# Altium footprint library WateringSystem_lib.PcbLib: 38 footprints (part 2 of 3)
Each footprint in its own frame and in the unit in brackets; x right, y up, seen from the top. Pads: shape width x height; smd on the part's side, far side on the other; paste and mask are expansions set on the pad; w line width, h text height; cw(c..) or ccw(c..) is an arc to the next point about the centre after c.
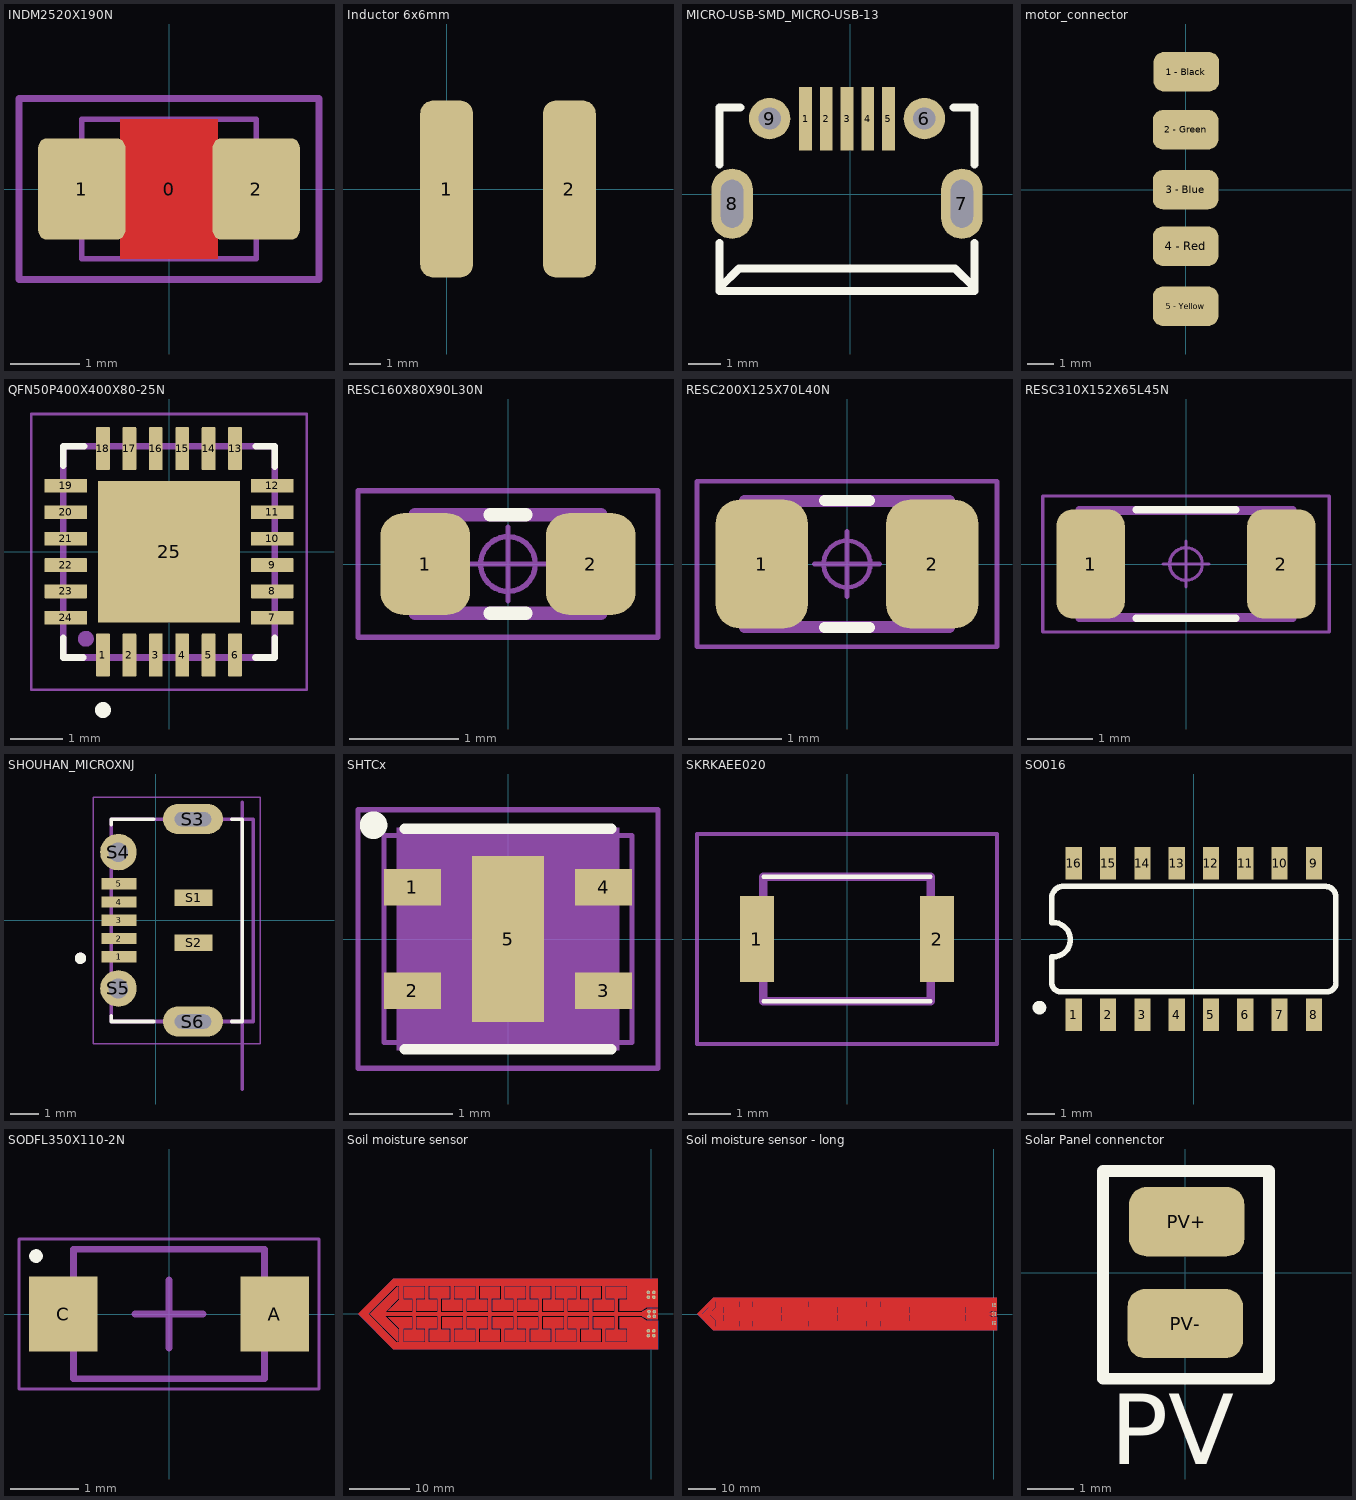
[diagram p1: the footprints below, top view; thin cyan lines are the x and y axes]

## INDM2520X190N [mm]
pads (3):
  round 0.508 on Mech15: 0(0,0)
  rrect20% 1.25x1.45 smd: 1(-1.25,0) 2(1.25,0)
Top Layer:
  pour cut-out: -0.7,1 0.7,1 0.7,-1 -0.7,-1
Mechanical 13:
  lines w0.076: -1.25,-1 -1.25,1 1.25,1 1.25,-1 -1.25,-1
Mechanical 15:
  lines w0.1: -2.15,-1.3 -2.15,1.3 2.15,1.3 2.15,-1.3 -2.15,-1.3
3D body "INDM2520X190N.STEP": height 1.79, standoff -0.01, extent -1.25,-1 1.25,1

## Inductor 6x6mm [mm]
pads (2):
  rrect50% 1.7x5.7 smd: 1(0,0) 2(3.95,0)

## MICRO-USB-SMD_MICRO-USB-13 [mm]
pads (9):
  rect 0.4x2 smd: 1(-1.4,2.362) 2(-0.75,2.362) 3(-0.1,2.362) 4(0.55,2.362) 5(1.2,2.362)
  round 1.3 hole 0.7: 6(2.325,2.37) 9(-2.525,2.37)
  oval 1.3x2.2 hole 0.7 slot 1.5 at 90 deg: 7(3.5,-0.3) 8(-3.7,-0.3)
Top Overlay:
  lines w0.254: -4.1,-3.037 3.9,-3.037 3.9,-1.535 ; -4.1,-3.017 -4.1,-1.535 ; -4.1,0.935 -4.1,2.712 -3.444,2.712 ; -4.07,-3.017 -4.07,-2.918 -3.48,-2.328 3.29,-2.328 3.88,-2.918 3.88,-3.037 ; 3.244,2.712 3.9,2.712 3.9,0.935

## motor_connector [mm]
pads (5):
  rrect50% 2.5x1.5 smd: "1 - Black"(0.03,4.493) "2 - Green"(0,2.286) "3 - Blue"(0,0) "4 - Red"(0,-2.159) "5 - Yellow"(0,-4.445)

## QFN50P400X400X80-25N [mm]
pads (25):
  rrect10% 0.26x0.81 smd: 1(-1.25,-1.955) 2(-0.75,-1.955) 3(-0.25,-1.955) 4(0.25,-1.955) 5(0.75,-1.955) 6(1.25,-1.955) 13(1.25,1.955) 14(0.75,1.955) 15(0.25,1.955) 16(-0.25,1.955) 17(-0.75,1.955) 18(-1.25,1.955)
  rrect10% 0.81x0.26 smd: 7(1.955,-1.25) 8(1.955,-0.75) 9(1.955,-0.25) 10(1.955,0.25) 11(1.955,0.75) 12(1.955,1.25) 19(-1.955,1.25) 20(-1.955,0.75) 21(-1.955,0.25) 22(-1.955,-0.25) 23(-1.955,-0.75) 24(-1.955,-1.25)
  rect 2.68x2.68 smd paste-2: 25(0,0)
Top Overlay:
  circle w0.15: c-1.25,-2.996 r0.075
  lines w0.127: -2,-1.63 -2,-2 -1.623,-2 ; -2,1.628 -2,2 -1.606,2 ; 1.639,-2 2,-2 2,-1.625 ; 1.643,2 2,2 2,1.612
Top Paste:
  region: -0.13,-0.13 -0.13,-1.091 -1.09,-1.091 -1.09,-0.13
  region: -0.13,1.09 -0.13,0.13 -1.09,0.13 -1.09,1.09
  region: 1.09,1.09 1.09,0.13 0.13,0.13 0.13,1.09
  region: 1.092,-0.13 1.092,-1.092 0.13,-1.092 0.13,-0.13
Top Solder:
  region: 1.453,1.45 1.453,-1.453 -1.45,-1.453 -1.45,1.45
Mechanical 13:
  circle w0.15: c-1.574,-1.647 r0.075
  lines w0.127: -2,-2 2,-2 2,2 -2,2 -2,-2
Mechanical 15:
  lines w0.05: -2.61,-2.61 -2.61,2.61 2.61,2.61 2.61,-2.61 -2.61,-2.61
3D body "CP2104-F03-GM.stp": height 0.8, standoff 0, extent -2.05,-2.05 2.05,2.05

## RESC160X80X90L30N [mm] "Resistor, Chip; 0603; 1.60 mm L X 0.80 mm W X 0.90 mm H body"
height 0.9
pads (2):
  rrect51% 0.82x0.93 smd: 1(-0.755,0) 2(0.755,0)
Top Overlay:
  lines w0.12: -0.165,-0.45 0.165,-0.45 ; -0.165,0.45 0.165,0.45
Mechanical 11:
  lines w0.12: -0.85,-0.45 0.85,-0.45 0.85,0.45 -0.85,0.45 -0.85,-0.45
Mechanical 12:
  lines w0.025: -0.8,-0.4 0.8,-0.4 ; -0.8,-0.4 -0.8,0.4 ; -0.8,-0.4 -0.8,0.4 ; -0.8,-0.4 -0.5,-0.4 -0.5,0.4 -0.8,0.4 ; -0.8,0.4 0.8,0.4 ; 0.8,-0.4 0.8,0.4 ; 0.8,-0.4 0.5,-0.4 0.5,0.4 0.8,0.4 ; 0.8,-0.4 0.8,0.4
Mechanical 15:
  circle w0.05: c0,0 r0.25
  lines w0.05: -0.335,0 0.335,0 ; 0,-0.335 0,0.335 ; -1.37,-0.67 1.37,-0.67 1.37,0.67 -1.37,0.67 -1.37,-0.67
3D body: height 0.25, standoff 0, extent 0,0 0.254,0.254
3D body "RESC160X80X90L30.STEP": height 0.9, standoff 0, extent -0.8,-0.4 0.8,0.4

## RESC200X125X70L40N [mm] "Resistor, Chip; 0805; 2.00 mm L X 1.25 mm W X 0.70 mm H body"
height 0.7
pads (2):
  rrect51% 0.99x1.38 smd: 1(-0.915,0) 2(0.915,0)
Top Overlay:
  lines w0.12: -0.24,-0.68 0.24,-0.68 ; -0.24,0.68 0.24,0.68
Mechanical 11:
  lines w0.12: -1.1,-0.68 1.1,-0.68 1.1,0.68 -1.1,0.68 -1.1,-0.68
Mechanical 12:
  lines w0.025: -1,-0.625 1,-0.625 ; -1,-0.625 -1,0.625 ; -1,-0.625 -1,0.625 ; -1,-0.625 -0.6,-0.625 -0.6,0.625 -1,0.625 ; -1,0.625 1,0.625 ; 1,-0.625 1,0.625 ; 1,-0.625 0.6,-0.625 0.6,0.625 1,0.625 ; 1,-0.625 1,0.625
Mechanical 15:
  circle w0.05: c0,0 r0.25
  lines w0.05: -0.35,0 0.35,0 ; 0,-0.35 0,0.35 ; -1.61,-0.89 1.61,-0.89 1.61,0.89 -1.61,0.89 -1.61,-0.89
3D body: height 0.25, standoff 0, extent 0,0 0.254,0.254
3D body "RESC200X125X70L40.STEP": height 0.7, standoff 0, extent -1,-0.625 1,0.625

## RESC310X152X65L45N [mm] "Resistor, 1206; Chip; 3.10 mm L X 1.525 mm W X 0.65 mm H body"
height 0.65
pads (2):
  rrect48% 1.05x1.67 smd: 1(-1.46,0) 2(1.46,0)
Top Overlay:
  lines w0.12: -0.755,-0.83 0.755,-0.83 ; -0.755,0.83 0.755,0.83
Mechanical 11:
  lines w0.12: -1.63,-0.83 -1.63,0.83 1.63,0.83 1.63,-0.83 -1.63,-0.83
Mechanical 12:
  lines w0.025: -1.55,-0.763 -1.1,-0.763 -1.1,0.763 -1.55,0.763 ; -1.55,-0.763 -1.55,0.763 ; -1.55,-0.763 -1.55,0.763 ; -1.55,-0.763 1.55,-0.763 ; -1.55,0.763 1.55,0.763 ; 1.55,-0.763 1.55,0.763 ; 1.55,-0.763 1.1,-0.763 1.1,0.763 1.55,0.763 ; 1.55,-0.763 1.55,0.763
Mechanical 15:
  circle w0.05: c0,0 r0.25
  lines w0.05: -0.35,0 0.35,0 ; 0,-0.35 0,0.35 ; -2.19,-1.04 -2.19,1.04 2.19,1.04 2.19,-1.04 -2.19,-1.04
3D body: height 0.25, standoff 0, extent 0,0 0.254,0.254
3D body "RESC310X152X65L45.STEP": height 0.65, standoff 0, extent -1.55,-0.762 1.55,0.763

## SHOUHAN_MICROXNJ [mm]
pads (11):
  rect 1.25x0.4 smd: 1(-1.312,-1.3) 2(-1.312,-0.65) 3(-1.312,0) 4(-1.312,0.65) 5(-1.312,1.3)
  rect 1.35x0.6 smd: S1(1.338,0.8) S2(1.338,-0.8)
  oval 2.14x1.07 hole 0.5 slot 1.3 at 0 deg: S3(1.313,3.6) S6(1.313,-3.6)
  round 1.3 hole 0.7: S4(-1.337,2.425) S5(-1.337,-2.425)
Top Overlay:
  circle w0.2: c-2.688,-1.35 r0.1
  lines w0.127: -1.597,-3.395 -1.597,-3.6 -0.077,-3.6 ; -1.597,3.395 -1.597,3.6 -0.077,3.6 ; 2.703,-3.6 3.063,-3.6 3.063,3.6 2.703,3.6
Mechanical 13:
  circle w0.2: c-2.688,-1.35 r0.1
  lines w0.127: 3.063,-6 3.063,4.2 ; -1.597,-3.6 3.463,-3.6 3.463,3.6 -1.597,3.6 -1.597,-3.6
  text "PCB EDGE" at 3.213,-4.35 h0.61
Mechanical 15:
  lines w0.05: -2.237,-4.385 3.713,-4.385 3.713,4.385 -2.237,4.385 -2.237,-4.385
3D body "Micro USB-B Female 5Pin SMD.STEP": height 2.71, standoff -1.01, extent -1.837,-4.025 3.963,4.025

## SHTCx [mm] "SENSOR HUMI/TEMP 1.62V-3.6V I2C 2% SMD"
height 0.75
pads (9):
  rect 0.55x0.35 smd paste-0.5 mask+0.05: 1(-0.925,0.5) 2(-0.925,-0.5)
  rect 0.55x0.35 smd paste-0.6 mask+0.05: 3(0.925,-0.5)
  rect 0.55x0.35 smd paste-0.2 mask+0.05: 4(0.925,0.5)
  rect 0.7x1.6 smd paste-0.1 mask+0.05: 5(0,0)
  rect 0.45x0.35 on Top Paste paste-0.6 mask+0.05: ""(-0.875,-0.5) ""(-0.875,0.5) ""(0.875,-0.5) ""(0.875,0.5)
Top Overlay:
  circle w0.2: c-1.3,1.1 r0.033
  lines w0.1: -1,-1.067 1,-1.067 ; -1,1.067 1,1.067
Top Assembly:
  circle w0.1: c0,0 r0.331
  circle w0.1: c0,0 r0.051
  circle w0.1: c-0.711,0.711 r0.152
  lines w0.1: -1.016,-1.016 -1.016,1.016 1.016,1.016 1.016,-1.016 -1.016,-1.016
Top Courtyard:
  lines w0.05: -0.2,0 0.2,0 ; 0,-0.2 0,0.2 ; -1.45,-1.25 -1.45,1.25 1.45,1.25 1.45,-1.25 -1.45,-1.25
Top Component Center:
  lines w0.05: -0.2,0 0.2,0 ; 0,-0.2 0,0.2
Top Component Outline:
  lines w0.05: -1.2,-1 -1.2,1 1.2,1 1.2,-1 -1.2,-1
Top Gold Plating:
  region: -1.075,-1.075 -1.075,1.075 1.075,1.075 1.075,-1.075
3D body "Sensirion_Humidity_SHTC1_STEP File.STEP": height 0.75, standoff 0, extent -1,-1 1,1

## SKRKAEE020 [mm]
pads (2):
  rect 0.8x2 smd: 1(-2.1,0) 2(2.1,0)
Top Overlay:
  lines w0.1: -1.95,-1.45 1.95,-1.45 ; -1.95,1.45 1.95,1.45
Mechanical 13:
  lines w0.2: -1.95,-1.45 1.95,-1.45 1.95,1.45 -1.95,1.45 -1.95,-1.45
Mechanical 15:
  lines w0.1: -3.5,-2.45 3.5,-2.45 3.5,2.45 -3.5,2.45 -3.5,-2.45
3D body "SKRKAE.STEP": height 1.9, standoff -0.1, extent -2.4,-1.45 2.4,1.45

## SO016 [mm]
pads (16):
  rect 0.6x1.2 smd: 1(-4.445,-2.8) 2(-3.175,-2.8) 3(-1.905,-2.8) 4(-0.635,-2.8) 5(0.635,-2.8) 6(1.905,-2.8) 7(3.175,-2.8) 8(4.445,-2.8) 9(4.445,2.8) 10(3.175,2.8) 11(1.905,2.8) 12(0.635,2.8) 13(-0.635,2.8) 14(-1.905,2.8) 15(-3.175,2.8) 16(-4.445,2.8)
Top Overlay:
  circle w0.254: c-5.715,-2.54 r0.127
  lines w0.203: -5.257,-1.668 ccw(c-4.927,-1.615) -4.874,-1.946 ; -5.258,-1.665 -5.258,-0.66 ; -5.258,0.61 -5.258,1.453 ; -5.257,1.463 cw(c-4.827,1.515) -4.88,1.946 ; -5.207,-0.66 ccw(c-5.207,-0.025) -5.207,0.61 ; -4.877,-1.946 4.977,-1.946 ; -4.877,1.946 4.877,1.946 cw(c4.877,1.565) 5.258,1.565 5.258,-1.565 ; 4.979,-1.946 ccw(c4.927,-1.615) 5.257,-1.563
Mechanical 13:
  region: 4.699,2.286 4.191,2.286 4.191,3.302 4.699,3.302
  region: 3.429,2.286 2.921,2.286 2.921,3.302 3.429,3.302
  region: 2.159,2.286 1.651,2.286 1.651,3.302 2.159,3.302
  region: 0.889,2.286 0.381,2.286 0.381,3.302 0.889,3.302
  region: -0.381,2.286 -0.889,2.286 -0.889,3.302 -0.381,3.302
  region: -1.651,2.286 -2.159,2.286 -2.159,3.302 -1.651,3.302
  region: -2.921,2.286 -3.429,2.286 -3.429,3.302 -2.921,3.302
  region: -4.191,2.286 -4.699,2.286 -4.699,3.365 -4.191,3.365
  region: 4.699,-3.302 4.191,-3.302 4.191,-2.273 4.699,-2.273
  region: 3.429,-3.302 2.921,-3.302 2.921,-2.273 3.429,-2.273
  region: 2.159,-3.302 1.651,-3.302 1.651,-2.273 2.159,-2.273
  region: 0.889,-3.302 0.381,-3.302 0.381,-2.273 0.889,-2.273
  region: -0.381,-3.302 -0.889,-3.302 -0.889,-2.273 -0.381,-2.273
  region: -1.651,-3.302 -2.159,-3.302 -2.159,-2.273 -1.651,-2.273
  region: -2.921,-3.302 -3.429,-3.302 -3.429,-2.273 -2.921,-2.273
  region: -4.191,-3.302 -4.699,-3.302 -4.699,-2.273 -4.191,-2.273

## SODFL350X110-2N [mm] "SODFL, 2-Leads, Body 1.70x3.50mm, IPC Medium Density"
height 1.1
pads (2):
  rect 1x1.1 smd: A(1.55,0) C(-1.55,0)
Top Overlay:
  circle w0.1: c-1.95,0.85 r0.05
Mechanical 13:
  lines w0.1: -1.4,-0.95 -1.4,0.95 1.4,0.95 1.4,-0.95 -1.4,-0.95
Mechanical 15:
  lines w0.05: -2.2,-1.1 -2.2,1.1 2.2,1.1 2.2,-1.1 -2.2,-1.1
  lines w0.1: -0.5,0 0.5,0 ; 0,-0.5 0,0.5
3D body "SODFL350X110-2N.step": height 1.1, standoff 0, extent -1.75,-0.95 1.75,0.95

## Soil moisture sensor [mm]
pads (12):
  round 0.6 hole 0.3: 1(-0.5,-3.6) 1(-0.5,2.8) 1(-0.5,3.6) 1(-0.5,-2.8) 1(0.4,-3.6) 1(0.4,2.8) 1(0.4,3.6) 1(0.4,-2.8) 2(-0.4,-0.4) 2(-0.4,0.4) 2(0.5,-0.4) 2(0.5,0.4)
Top Layer:
  rectangle: -45.4,-0.3 -1.5,0.3
  region: -46.9,0
  region: -46.9,0
  region: -42.9,-5.9
  region: -42.1,4.5
  region: -42,4.5
  region: -42.9,5.9
  region: -1.7,0.2
  region: -0.7,1.3
  region: -1.7,5.9
  region: -1.7,5.9
  region: 0,2
  region: -46.8,0 -42.3,4.5 -42.1,4.5 -42.1,2.5 -44.6,0
  region: -33.4,2.4 -34.8,2.4 -34.8,0.5 -31.5,0.5 -31.5,2.4 -32.9,2.4 -32.9,5 -33.4,5
  region: -1.7,0.5 -5.3,0.5 -5.3,2.4 -4,2.4 -4,4.7 -42.9,4.7 -42.9,5.9 -1.7,5.9
  region: 0,2
  region: -1.7,-0.5 -5.3,-0.5 -5.3,-2.4 -4,-2.4 -4,-4.7 -42.9,-4.7 -42.9,-5.9 -1.7,-5.9
  region: -8.2,2.4 -9.6,2.4 -9.6,0.5 -6.3,0.5 -6.3,2.4 -7.7,2.4 -7.7,5 -8.2,5
  region: -12.4,2.4 -13.8,2.4 -13.8,0.5 -10.5,0.5 -10.5,2.4 -11.9,2.4 -11.9,5 -12.4,5
  region: -16.6,2.4 -18,2.4 -18,0.5 -14.7,0.5 -14.7,2.4 -16.1,2.4 -16.1,5 -16.6,5
  region: -20.8,2.4 -22.2,2.4 -22.2,0.5 -18.9,0.5 -18.9,2.4 -20.3,2.4 -20.3,5 -20.8,5
  region: -25,2.4 -26.4,2.4 -26.4,0.5 -23.1,0.5 -23.1,2.4 -24.5,2.4 -24.5,5 -25,5
  region: -29.2,2.4 -30.6,2.4 -30.6,0.5 -27.3,0.5 -27.3,2.4 -28.7,2.4 -28.7,5 -29.2,5
  region: -33.4,2.4 -34.8,2.4 -34.8,0.5 -31.5,0.5 -31.5,2.4 -32.9,2.4 -32.9,5 -33.4,5
  region: -37.6,2.4 -39,2.4 -39,0.5 -35.7,0.5 -35.7,2.4 -37.1,2.4 -37.1,5 -37.6,5
  region: -8.2,-2.4 -9.6,-2.4 -9.6,-0.5 -6.3,-0.5 -6.3,-2.4 -7.7,-2.4 -7.7,-5 -8.2,-5
  region: -12.4,-2.4 -13.8,-2.4 -13.8,-0.5 -10.5,-0.5 -10.5,-2.4 -11.9,-2.4 -11.9,-5 -12.4,-5
  region: -16.6,-2.4 -18,-2.4 -18,-0.5 -14.7,-0.5 -14.7,-2.4 -16.1,-2.4 -16.1,-5 -16.6,-5
  region: -20.8,-2.4 -22.2,-2.4 -22.2,-0.5 -18.9,-0.5 -18.9,-2.4 -20.3,-2.4 -20.3,-5 -20.8,-5
  region: -25,-2.4 -26.4,-2.4 -26.4,-0.5 -23.1,-0.5 -23.1,-2.4 -24.5,-2.4 -24.5,-5 -25,-5
  region: -29.2,-2.4 -30.6,-2.4 -30.6,-0.5 -27.3,-0.5 -27.3,-2.4 -28.7,-2.4 -28.7,-5 -29.2,-5
  region: -33.4,-2.4 -34.8,-2.4 -34.8,-0.5 -31.5,-0.5 -31.5,-2.4 -32.9,-2.4 -32.9,-5 -33.4,-5
  region: -37.6,-2.4 -39,-2.4 -39,-0.5 -35.7,-0.5 -35.7,-2.4 -37.1,-2.4 -37.1,-5 -37.6,-5
  region: -42.9,5.9
  region: -41.9,4.9 -41.9,2.4 -43.8,0.5 -39.9,0.5 -39.9,2.4 -41.3,2.4 -41.3,4.9
  region: -42.9,5.9 -48.8,0 -47.1,0 -42.4,4.7 -42.4,5.9
  region: -42.9,-5.9
  region: -42.9,-5.9 -48.8,0 -47.1,0 -42.4,-4.7 -42.4,-5.9
  region: -41.9,-4.9 -41.9,-2.4 -43.8,-0.5 -39.9,-0.5 -39.9,-2.4 -41.3,-2.4 -41.3,-4.9
  region: -42,4.5
  region: -46.9,0
  region: -46.9,0
  region: -1.7,5.9
  region: -1.7,5.9
  region: -1.7,0.5 -0.8,1.1 1.1,1.1 1.1,5.9 -1.7,5.9
  region: -1.7,-5.9 1.1,-5.9 1.1,-1.1 -0.8,-1.1 -1.7,-0.5
  region: -0.7,1.3
  region: -22.4,2.6 -21,2.6 -21,4.5 -24.3,4.5 -24.3,2.6 -22.9,2.6 -22.9,0 -22.4,0
  region: -35,-2.6 -33.6,-2.6 -33.6,-4.5 -36.9,-4.5 -36.9,-2.6 -35.5,-2.6 -35.5,0 -35,0
  region: -14,-2.6 -12.6,-2.6 -12.6,-4.5 -15.9,-4.5 -15.9,-2.6 -14.5,-2.6 -14.5,0 -14,0
  region: -35,2.6 -33.6,2.6 -33.6,4.5 -36.9,4.5 -36.9,2.6 -35.5,2.6 -35.5,0 -35,0
  region: -30.8,-2.6 -29.4,-2.6 -29.4,-4.5 -32.7,-4.5 -32.7,-2.6 -31.3,-2.6 -31.3,0 -30.8,0
  region: -26.6,2.6 -25.2,2.6 -25.2,4.5 -28.5,4.5 -28.5,2.6 -27.1,2.6 -27.1,0 -26.6,0
  region: -42.1,4.5
  region: -9.8,-2.6 -8.4,-2.6 -8.4,-4.5 -11.7,-4.5 -11.7,-2.6 -10.3,-2.6 -10.3,0 -9.8,0
  region: -26.6,-2.6 -25.2,-2.6 -25.2,-4.5 -28.5,-4.5 -28.5,-2.6 -27.1,-2.6 -27.1,0 -26.6,0
  region: -46.8,0 -42.3,4.5 -42.1,4.5 -42.1,2.5 -44.6,0
  region: -0.7,-0.9 1.1,-0.9 1.1,0.9 -0.7,0.9
  region: -5.6,2.6 -4.2,2.6 -4.2,4.5 -7.5,4.5 -7.5,2.6 -6.1,2.6 -6.1,0 -5.6,0
  region: -6.1,-2.6 -7.5,-2.6 -7.5,-4.5 -4.2,-4.5 -4.2,-2.6 -5.6,-2.6 -5.6,0 -6.1,0
  region: -22.4,-2.6 -21,-2.6 -21,-4.5 -24.3,-4.5 -24.3,-2.6 -22.9,-2.6 -22.9,0 -22.4,0
  region: -18.2,2.6 -16.8,2.6 -16.8,4.5 -20.1,4.5 -20.1,2.6 -18.7,2.6 -18.7,0 -18.2,0
  region: -39.2,-2.6 -37.8,-2.6 -37.8,-4.5 -41.1,-4.5 -41.1,-2.6 -39.7,-2.6 -39.7,0 -39.2,0
  region: -1.7,0.3 -0.7,0.9 -0.7,-0.9 -1.7,-0.3
  region: -46.8,0 -42.3,-4.5 -42.1,-4.5 -42.1,-2.5 -44.6,0
  region: -1.7,0.2
  region: -14,2.6 -12.6,2.6 -12.6,4.5 -15.9,4.5 -15.9,2.6 -14.5,2.6 -14.5,0 -14,0
  region: -39.2,2.6 -37.8,2.6 -37.8,4.5 -41.1,4.5 -41.1,2.6 -39.7,2.6 -39.7,0 -39.2,0
  region: -30.8,2.6 -29.4,2.6 -29.4,4.5 -32.7,4.5 -32.7,2.6 -31.3,2.6 -31.3,0 -30.8,0
  region: -9.8,2.6 -8.4,2.6 -8.4,4.5 -11.7,4.5 -11.7,2.6 -10.3,2.6 -10.3,0 -9.8,0
  region: -18.2,-2.6 -16.8,-2.6 -16.8,-4.5 -20.1,-4.5 -20.1,-2.6 -18.7,-2.6 -18.7,0 -18.2,0
Bottom Layer:
  rectangle: -45.4,-0.3 -1.5,0.3
  region: -46.9,0
  region: -46.9,0
  region: -42.9,-5.9
  region: -42.1,4.5
  region: -42,4.5
  region: -42.9,5.9
  region: -0.7,1.3
  region: -1.7,0.2
  region: -1.7,5.9
  region: -1.7,5.9
  region: 0,2
  region: -46.9,0
  region: -46.9,0
  region: -42.9,-5.9
  region: -42,4.5
  region: -42.1,4.5
  region: -42.9,5.9
  region: -1.7,0.2
  region: -0.7,1.3
  region: -1.7,5.9
  region: -1.7,5.9
  region: 0,2
  region: -1.7,0.3 -0.7,0.9 -0.7,-0.9 -1.7,-0.3
  region: -41.9,4.9 -41.9,2.4 -43.8,0.5 -39.9,0.5 -39.9,2.4 -41.3,2.4 -41.3,4.9
  region: -33.4,2.4 -34.8,2.4 -34.8,0.5 -31.5,0.5 -31.5,2.4 -32.9,2.4 -32.9,5 -33.4,5
  region: -35,2.6 -33.6,2.6 -33.6,4.5 -36.9,4.5 -36.9,2.6 -35.5,2.6 -35.5,0 -35,0
  region: -25,2.4 -26.4,2.4 -26.4,0.5 -23.1,0.5 -23.1,2.4 -24.5,2.4 -24.5,5 -25,5
  region: -26.6,2.6 -25.2,2.6 -25.2,4.5 -28.5,4.5 -28.5,2.6 -27.1,2.6 -27.1,0 -26.6,0
  region: -16.6,2.4 -18,2.4 -18,0.5 -14.7,0.5 -14.7,2.4 -16.1,2.4 -16.1,5 -16.6,5
  region: -18.2,2.6 -16.8,2.6 -16.8,4.5 -20.1,4.5 -20.1,2.6 -18.7,2.6 -18.7,0 -18.2,0
  region: -8.2,2.4 -9.6,2.4 -9.6,0.5 -6.3,0.5 -6.3,2.4 -7.7,2.4 -7.7,5 -8.2,5
  region: -9.8,2.6 -8.4,2.6 -8.4,4.5 -11.7,4.5 -11.7,2.6 -10.3,2.6 -10.3,0 -9.8,0
  region: -1.7,0.5 -0.8,1.1 1.1,1.1 1.1,5.9 -1.7,5.9
  region: -0.7,-0.9 1.1,-0.9 1.1,0.9 -0.7,0.9
  region: -41.9,-4.9 -41.9,-2.4 -43.8,-0.5 -39.9,-0.5 -39.9,-2.4 -41.3,-2.4 -41.3,-4.9
  region: -33.4,-2.4 -34.8,-2.4 -34.8,-0.5 -31.5,-0.5 -31.5,-2.4 -32.9,-2.4 -32.9,-5 -33.4,-5
  region: -35,-2.6 -33.6,-2.6 -33.6,-4.5 -36.9,-4.5 -36.9,-2.6 -35.5,-2.6 -35.5,0 -35,0
  region: -25,-2.4 -26.4,-2.4 -26.4,-0.5 -23.1,-0.5 -23.1,-2.4 -24.5,-2.4 -24.5,-5 -25,-5
  region: -26.6,-2.6 -25.2,-2.6 -25.2,-4.5 -28.5,-4.5 -28.5,-2.6 -27.1,-2.6 -27.1,0 -26.6,0
  region: -16.6,-2.4 -18,-2.4 -18,-0.5 -14.7,-0.5 -14.7,-2.4 -16.1,-2.4 -16.1,-5 -16.6,-5
  region: -18.2,-2.6 -16.8,-2.6 -16.8,-4.5 -20.1,-4.5 -20.1,-2.6 -18.7,-2.6 -18.7,0 -18.2,0
  region: -8.2,-2.4 -9.6,-2.4 -9.6,-0.5 -6.3,-0.5 -6.3,-2.4 -7.7,-2.4 -7.7,-5 -8.2,-5
  region: -9.8,-2.6 -8.4,-2.6 -8.4,-4.5 -11.7,-4.5 -11.7,-2.6 -10.3,-2.6 -10.3,0 -9.8,0
  region: -1.7,-5.9 1.1,-5.9 1.1,-4.1 -1.07,-4.1 1.1,-4.1 1.1,-1.1 -0.8,-1.1 -1.7,-0.5
  region: -20.8,2.4 -22.2,2.4 -22.2,0.5 -18.9,0.5 -18.9,2.4 -20.3,2.4 -20.3,5 -20.8,5
  region: -29.2,2.4 -30.6,2.4 -30.6,0.5 -27.3,0.5 -27.3,2.4 -28.7,2.4 -28.7,5 -29.2,5
  region: -37.6,2.4 -39,2.4 -39,0.5 -35.7,0.5 -35.7,2.4 -37.1,2.4 -37.1,5 -37.6,5
  region: -42.9,5.9 -48.8,0 -47.1,0 -42.4,4.7 -42.4,5.9
  region: -22.4,2.6 -21,2.6 -21,4.5 -24.3,4.5 -24.3,2.6 -22.9,2.6 -22.9,0 -22.4,0
  region: -46.8,0 -42.3,4.5 -42.1,4.5 -42.1,2.5 -44.6,0
  region: -39.2,2.6 -37.8,2.6 -37.8,4.5 -41.1,4.5 -41.1,2.6 -39.7,2.6 -39.7,0 -39.2,0
  region: -30.8,2.6 -29.4,2.6 -29.4,4.5 -32.7,4.5 -32.7,2.6 -31.3,2.6 -31.3,0 -30.8,0
  region: -12.4,2.4 -13.8,2.4 -13.8,0.5 -10.5,0.5 -10.5,2.4 -11.9,2.4 -11.9,5 -12.4,5
  region: -5.6,2.6 -4.2,2.6 -4.2,4.5 -7.5,4.5 -7.5,2.6 -6.1,2.6 -6.1,0 -5.6,0
  region: -14,2.6 -12.6,2.6 -12.6,4.5 -15.9,4.5 -15.9,2.6 -14.5,2.6 -14.5,0 -14,0
  region: -20.8,-2.4 -22.2,-2.4 -22.2,-0.5 -18.9,-0.5 -18.9,-2.4 -20.3,-2.4 -20.3,-5 -20.8,-5
  region: -29.2,-2.4 -30.6,-2.4 -30.6,-0.5 -27.3,-0.5 -27.3,-2.4 -28.7,-2.4 -28.7,-5 -29.2,-5
  region: -37.6,-2.4 -39,-2.4 -39,-0.5 -35.7,-0.5 -35.7,-2.4 -37.1,-2.4 -37.1,-5 -37.6,-5
  region: -42.9,-5.9 -48.8,0 -47.1,0 -42.4,-4.7 -42.4,-5.9
  region: -30.8,-2.6 -29.4,-2.6 -29.4,-4.5 -32.7,-4.5 -32.7,-2.6 -31.3,-2.6 -31.3,0 -30.8,0
  region: -22.4,-2.6 -21,-2.6 -21,-4.5 -24.3,-4.5 -24.3,-2.6 -22.9,-2.6 -22.9,0 -22.4,0
  region: -39.2,-2.6 -37.8,-2.6 -37.8,-4.5 -41.1,-4.5 -41.1,-2.6 -39.7,-2.6 -39.7,0 -39.2,0
  region: -46.8,0 -42.3,-4.5 -42.1,-4.5 -42.1,-2.5 -44.6,0
  region: -12.4,-2.4 -13.8,-2.4 -13.8,-0.5 -10.5,-0.5 -10.5,-2.4 -11.9,-2.4 -11.9,-5 -12.4,-5
  region: -14,-2.6 -12.6,-2.6 -12.6,-4.5 -15.9,-4.5 -15.9,-2.6 -14.5,-2.6 -14.5,0 -14,0
  region: -6.1,-2.6 -7.5,-2.6 -7.5,-4.5 -4.2,-4.5 -4.2,-2.6 -5.6,-2.6 -5.6,0 -6.1,0
  region: -1.7,0.5 -5.3,0.5 -5.3,2.4 -4,2.4 -4,4.7 -42.9,4.7 -42.9,5.9 -1.7,5.9
  region: -1.7,-0.5 -5.3,-0.5 -5.3,-2.4 -4,-2.4 -4,-4.7 -42.9,-4.7 -42.9,-5.9 -1.7,-5.9

## Soil moisture sensor - long [mm]
pads (12):
  round 0.6 hole 0.3: 1(-0.5,-3.6) 1(-0.5,2.8) 1(-0.5,3.6) 1(-0.5,-2.8) 1(0.4,-3.6) 1(0.4,2.8) 1(0.4,3.6) 1(0.4,-2.8) 2(-0.4,-0.4) 2(-0.4,0.4) 2(0.5,-0.4) 2(0.5,0.4)
Top Layer:
  rectangle: -103.8,-0.3 -1.5,0.3
  region: -75.4,-2.4 -76.8,-2.4 -76.8,-0.5 -73.5,-0.5 -73.5,-2.4 -74.9,-2.4 -74.9,-5 -75.4,-5
  region: -79.6,-2.4 -81,-2.4 -81,-0.5 -77.7,-0.5 -77.7,-2.4 -79.1,-2.4 -79.1,-5 -79.6,-5
  region: -83.8,-2.4 -85.2,-2.4 -85.2,-0.5 -81.9,-0.5 -81.9,-2.4 -83.3,-2.4 -83.3,-5 -83.8,-5
  region: -88,-2.4 -89.4,-2.4 -89.4,-0.5 -86.1,-0.5 -86.1,-2.4 -87.5,-2.4 -87.5,-5 -88,-5
  region: -92.2,-2.4 -93.6,-2.4 -93.6,-0.5 -90.3,-0.5 -90.3,-2.4 -91.7,-2.4 -91.7,-5 -92.2,-5
  region: -96.4,-2.4 -97.8,-2.4 -97.8,-0.5 -94.5,-0.5 -94.5,-2.4 -95.9,-2.4 -95.9,-5 -96.4,-5
  region: -81.2,-2.6 -79.8,-2.6 -79.8,-4.5 -83.1,-4.5 -83.1,-2.6 -81.7,-2.6 -81.7,0 -81.2,0
  region: -98,-2.6 -96.6,-2.6 -96.6,-4.5 -99.9,-4.5 -99.9,-2.6 -98.5,-2.6 -98.5,0 -98,0
  region: -77,-2.6 -75.6,-2.6 -75.6,-4.5 -78.9,-4.5 -78.9,-2.6 -77.5,-2.6 -77.5,0 -77,0
  region: -93.8,-2.6 -92.4,-2.6 -92.4,-4.5 -95.7,-4.5 -95.7,-2.6 -94.3,-2.6 -94.3,0 -93.8,0
  region: -89.6,-2.6 -88.2,-2.6 -88.2,-4.5 -91.5,-4.5 -91.5,-2.6 -90.1,-2.6 -90.1,0 -89.6,0
  region: -85.4,-2.6 -84,-2.6 -84,-4.5 -87.3,-4.5 -87.3,-2.6 -85.9,-2.6 -85.9,0 -85.4,0
  region: -41.8,-2.4 -43.2,-2.4 -43.2,-0.5 -39.9,-0.5 -39.9,-2.4 -41.3,-2.4 -41.3,-5 -41.8,-5
  region: -46,-2.4 -47.4,-2.4 -47.4,-0.5 -44.1,-0.5 -44.1,-2.4 -45.5,-2.4 -45.5,-5 -46,-5
  region: -50.2,-2.4 -51.6,-2.4 -51.6,-0.5 -48.3,-0.5 -48.3,-2.4 -49.7,-2.4 -49.7,-5 -50.2,-5
  region: -54.4,-2.4 -55.8,-2.4 -55.8,-0.5 -52.5,-0.5 -52.5,-2.4 -53.9,-2.4 -53.9,-5 -54.4,-5
  region: -58.6,-2.4 -60,-2.4 -60,-0.5 -56.7,-0.5 -56.7,-2.4 -58.1,-2.4 -58.1,-5 -58.6,-5
  region: -62.8,-2.4 -64.2,-2.4 -64.2,-0.5 -60.9,-0.5 -60.9,-2.4 -62.3,-2.4 -62.3,-5 -62.8,-5
  region: -67,-2.4 -68.4,-2.4 -68.4,-0.5 -65.1,-0.5 -65.1,-2.4 -66.5,-2.4 -66.5,-5 -67,-5
  region: -71.2,-2.4 -72.6,-2.4 -72.6,-0.5 -69.3,-0.5 -69.3,-2.4 -70.7,-2.4 -70.7,-5 -71.2,-5
  region: -68.6,-2.6 -67.2,-2.6 -67.2,-4.5 -70.5,-4.5 -70.5,-2.6 -69.1,-2.6 -69.1,0 -68.6,0
  region: -47.6,-2.6 -46.2,-2.6 -46.2,-4.5 -49.5,-4.5 -49.5,-2.6 -48.1,-2.6 -48.1,0 -47.6,0
  region: -64.4,-2.6 -63,-2.6 -63,-4.5 -66.3,-4.5 -66.3,-2.6 -64.9,-2.6 -64.9,0 -64.4,0
  region: -43.4,-2.6 -42,-2.6 -42,-4.5 -45.3,-4.5 -45.3,-2.6 -43.9,-2.6 -43.9,0 -43.4,0
  region: -60.2,-2.6 -58.8,-2.6 -58.8,-4.5 -62.1,-4.5 -62.1,-2.6 -60.7,-2.6 -60.7,0 -60.2,0
  region: -56,-2.6 -54.6,-2.6 -54.6,-4.5 -57.9,-4.5 -57.9,-2.6 -56.5,-2.6 -56.5,0 -56,0
  region: -72.8,-2.6 -71.4,-2.6 -71.4,-4.5 -74.7,-4.5 -74.7,-2.6 -73.3,-2.6 -73.3,0 -72.8,0
  region: -51.8,-2.6 -50.4,-2.6 -50.4,-4.5 -53.7,-4.5 -53.7,-2.6 -52.3,-2.6 -52.3,0 -51.8,0
  region: -75.4,2.4 -76.8,2.4 -76.8,0.5 -73.5,0.5 -73.5,2.4 -74.9,2.4 -74.9,5 -75.4,5
  region: -79.6,2.4 -81,2.4 -81,0.5 -77.7,0.5 -77.7,2.4 -79.1,2.4 -79.1,5 -79.6,5
  region: -83.8,2.4 -85.2,2.4 -85.2,0.5 -81.9,0.5 -81.9,2.4 -83.3,2.4 -83.3,5 -83.8,5
  region: -88,2.4 -89.4,2.4 -89.4,0.5 -86.1,0.5 -86.1,2.4 -87.5,2.4 -87.5,5 -88,5
  region: -92.2,2.4 -93.6,2.4 -93.6,0.5 -90.3,0.5 -90.3,2.4 -91.7,2.4 -91.7,5 -92.2,5
  region: -96.4,2.4 -97.8,2.4 -97.8,0.5 -94.5,0.5 -94.5,2.4 -95.9,2.4 -95.9,5 -96.4,5
  region: -89.6,2.6 -88.2,2.6 -88.2,4.5 -91.5,4.5 -91.5,2.6 -90.1,2.6 -90.1,0 -89.6,0
  region: -93.8,2.6 -92.4,2.6 -92.4,4.5 -95.7,4.5 -95.7,2.6 -94.3,2.6 -94.3,0 -93.8,0
  region: -85.4,2.6 -84,2.6 -84,4.5 -87.3,4.5 -87.3,2.6 -85.9,2.6 -85.9,0 -85.4,0
  region: -81.2,2.6 -79.8,2.6 -79.8,4.5 -83.1,4.5 -83.1,2.6 -81.7,2.6 -81.7,0 -81.2,0
  region: -98,2.6 -96.6,2.6 -96.6,4.5 -99.9,4.5 -99.9,2.6 -98.5,2.6 -98.5,0 -98,0
  region: -77,2.6 -75.6,2.6 -75.6,4.5 -78.9,4.5 -78.9,2.6 -77.5,2.6 -77.5,0 -77,0
  region: -67,2.4 -68.4,2.4 -68.4,0.5 -65.1,0.5 -65.1,2.4 -66.5,2.4 -66.5,5 -67,5
  region: -41.8,2.4 -43.2,2.4 -43.2,0.5 -39.9,0.5 -39.9,2.4 -41.3,2.4 -41.3,5 -41.8,5
  region: -46,2.4 -47.4,2.4 -47.4,0.5 -44.1,0.5 -44.1,2.4 -45.5,2.4 -45.5,5 -46,5
  region: -50.2,2.4 -51.6,2.4 -51.6,0.5 -48.3,0.5 -48.3,2.4 -49.7,2.4 -49.7,5 -50.2,5
  region: -54.4,2.4 -55.8,2.4 -55.8,0.5 -52.5,0.5 -52.5,2.4 -53.9,2.4 -53.9,5 -54.4,5
  region: -58.6,2.4 -60,2.4 -60,0.5 -56.7,0.5 -56.7,2.4 -58.1,2.4 -58.1,5 -58.6,5
  region: -62.8,2.4 -64.2,2.4 -64.2,0.5 -60.9,0.5 -60.9,2.4 -62.3,2.4 -62.3,5 -62.8,5
  region: -71.2,2.4 -72.6,2.4 -72.6,0.5 -69.3,0.5 -69.3,2.4 -70.7,2.4 -70.7,5 -71.2,5
  region: -56,2.6 -54.6,2.6 -54.6,4.5 -57.9,4.5 -57.9,2.6 -56.5,2.6 -56.5,0 -56,0
  region: -68.6,2.6 -67.2,2.6 -67.2,4.5 -70.5,4.5 -70.5,2.6 -69.1,2.6 -69.1,0 -68.6,0
  region: -60.2,2.6 -58.8,2.6 -58.8,4.5 -62.1,4.5 -62.1,2.6 -60.7,2.6 -60.7,0 -60.2,0
  region: -51.8,2.6 -50.4,2.6 -50.4,4.5 -53.7,4.5 -53.7,2.6 -52.3,2.6 -52.3,0 -51.8,0
  region: -47.6,2.6 -46.2,2.6 -46.2,4.5 -49.5,4.5 -49.5,2.6 -48.1,2.6 -48.1,0 -47.6,0
  region: -72.8,2.6 -71.4,2.6 -71.4,4.5 -74.7,4.5 -74.7,2.6 -73.3,2.6 -73.3,0 -72.8,0
  region: -64.4,2.6 -63,2.6 -63,4.5 -66.3,4.5 -66.3,2.6 -64.9,2.6 -64.9,0 -64.4,0
  region: -43.4,2.6 -42,2.6 -42,4.5 -45.3,4.5 -45.3,2.6 -43.9,2.6 -43.9,0 -43.4,0
  region: -46.9,0
  region: -46.9,0
  region: -42.9,-5.9
  region: -42.1,4.5
  region: -42,4.5
  region: -42.9,5.9
  region: -1.7,0.2
  region: -0.7,1.3
  region: -1.7,5.9
  region: -1.7,5.9
  region: 0,2
  region: -105.6,0 -101.1,4.5 -100.9,4.5 -100.9,2.5 -103.4,0
  region: -33.4,2.4 -34.8,2.4 -34.8,0.5 -31.5,0.5 -31.5,2.4 -32.9,2.4 -32.9,5 -33.4,5
  region: -1.7,0.5 -5.3,0.5 -5.3,2.4 -4,2.4 -4,4.7 -101.5,4.7 -101.5,5.9 -1.7,5.9
  region: 0,2
  region: -1.7,-0.5 -5.3,-0.5 -5.3,-2.4 -4,-2.4 -4,-4.7 -101.6,-4.7 -101.6,-5.9 -1.7,-5.9
  region: -8.2,2.4 -9.6,2.4 -9.6,0.5 -6.3,0.5 -6.3,2.4 -7.7,2.4 -7.7,5 -8.2,5
  region: -12.4,2.4 -13.8,2.4 -13.8,0.5 -10.5,0.5 -10.5,2.4 -11.9,2.4 -11.9,5 -12.4,5
  region: -16.6,2.4 -18,2.4 -18,0.5 -14.7,0.5 -14.7,2.4 -16.1,2.4 -16.1,5 -16.6,5
  region: -20.8,2.4 -22.2,2.4 -22.2,0.5 -18.9,0.5 -18.9,2.4 -20.3,2.4 -20.3,5 -20.8,5
  region: -25,2.4 -26.4,2.4 -26.4,0.5 -23.1,0.5 -23.1,2.4 -24.5,2.4 -24.5,5 -25,5
  region: -29.2,2.4 -30.6,2.4 -30.6,0.5 -27.3,0.5 -27.3,2.4 -28.7,2.4 -28.7,5 -29.2,5
  region: -33.4,2.4 -34.8,2.4 -34.8,0.5 -31.5,0.5 -31.5,2.4 -32.9,2.4 -32.9,5 -33.4,5
  region: -37.6,2.4 -39,2.4 -39,0.5 -35.7,0.5 -35.7,2.4 -37.1,2.4 -37.1,5 -37.6,5
  region: -8.2,-2.4 -9.6,-2.4 -9.6,-0.5 -6.3,-0.5 -6.3,-2.4 -7.7,-2.4 -7.7,-5 -8.2,-5
  region: -12.4,-2.4 -13.8,-2.4 -13.8,-0.5 -10.5,-0.5 -10.5,-2.4 -11.9,-2.4 -11.9,-5 -12.4,-5
  region: -16.6,-2.4 -18,-2.4 -18,-0.5 -14.7,-0.5 -14.7,-2.4 -16.1,-2.4 -16.1,-5 -16.6,-5
  region: -20.8,-2.4 -22.2,-2.4 -22.2,-0.5 -18.9,-0.5 -18.9,-2.4 -20.3,-2.4 -20.3,-5 -20.8,-5
  region: -25,-2.4 -26.4,-2.4 -26.4,-0.5 -23.1,-0.5 -23.1,-2.4 -24.5,-2.4 -24.5,-5 -25,-5
  region: -29.2,-2.4 -30.6,-2.4 -30.6,-0.5 -27.3,-0.5 -27.3,-2.4 -28.7,-2.4 -28.7,-5 -29.2,-5
  region: -33.4,-2.4 -34.8,-2.4 -34.8,-0.5 -31.5,-0.5 -31.5,-2.4 -32.9,-2.4 -32.9,-5 -33.4,-5
  region: -37.6,-2.4 -39,-2.4 -39,-0.5 -35.7,-0.5 -35.7,-2.4 -37.1,-2.4 -37.1,-5 -37.6,-5
  region: -42.9,5.9
  region: -100.7,4.9 -100.7,2.4 -102.6,0.5 -98.7,0.5 -98.7,2.4 -100.1,2.4 -100.1,4.9
  region: -101.7,5.9 -107.6,0 -105.9,0 -101.2,4.7 -101.2,5.9
  region: -42.9,-5.9
  region: -101.7,-5.9 -107.6,0 -105.9,0 -101.2,-4.7 -101.2,-5.9
  region: -100.65,-4.9 -100.65,-2.4 -102.55,-0.5 -98.7,-0.5 -98.7,-2.4 -100.05,-2.4 -100.05,-4.9
  region: -42,4.5
  region: -46.9,0
  region: -46.9,0
  region: -1.7,5.9
  region: -1.7,5.9
  region: -1.7,0.5 -0.8,1.1 1.1,1.1 1.1,4.1 -1.037,4.1 1.1,4.1 1.1,5.9 -1.7,5.9
  region: -1.7,-5.9 1.1,-5.9 1.1,-4.1 1.1,-1.1 -0.8,-1.1 -1.7,-0.5
  region: -0.7,1.3
  region: -22.4,2.6 -21,2.6 -21,4.5 -24.3,4.5 -24.3,2.6 -22.9,2.6 -22.9,0 -22.4,0
  region: -35,-2.6 -33.6,-2.6 -33.6,-4.5 -36.9,-4.5 -36.9,-2.6 -35.5,-2.6 -35.5,0 -35,0
  region: -14,-2.6 -12.6,-2.6 -12.6,-4.5 -15.9,-4.5 -15.9,-2.6 -14.5,-2.6 -14.5,0 -14,0
  region: -35,2.6 -33.6,2.6 -33.6,4.5 -36.9,4.5 -36.9,2.6 -35.5,2.6 -35.5,0 -35,0
  region: -30.8,-2.6 -29.4,-2.6 -29.4,-4.5 -32.7,-4.5 -32.7,-2.6 -31.3,-2.6 -31.3,0 -30.8,0
  region: -26.6,2.6 -25.2,2.6 -25.2,4.5 -28.5,4.5 -28.5,2.6 -27.1,2.6 -27.1,0 -26.6,0
  region: -42.1,4.5
  region: -9.8,-2.6 -8.4,-2.6 -8.4,-4.5 -11.7,-4.5 -11.7,-2.6 -10.3,-2.6 -10.3,0 -9.8,0
  region: -26.6,-2.6 -25.2,-2.6 -25.2,-4.5 -28.5,-4.5 -28.5,-2.6 -27.1,-2.6 -27.1,0 -26.6,0
  region: -0.7,-0.9 1.1,-0.9 1.1,0.9 -0.7,0.9
  region: -5.6,2.6 -4.2,2.6 -4.2,4.5 -7.5,4.5 -7.5,2.6 -6.1,2.6 -6.1,0 -5.6,0
  region: -6.1,-2.6 -7.5,-2.6 -7.5,-4.5 -4.2,-4.5 -4.2,-2.6 -5.6,-2.6 -5.6,0 -6.1,0
  region: -22.4,-2.6 -21,-2.6 -21,-4.5 -24.3,-4.5 -24.3,-2.6 -22.9,-2.6 -22.9,0 -22.4,0
  region: -18.2,2.6 -16.8,2.6 -16.8,4.5 -20.1,4.5 -20.1,2.6 -18.7,2.6 -18.7,0 -18.2,0
  region: -39.2,-2.6 -37.8,-2.6 -37.8,-4.5 -41.1,-4.5 -41.1,-2.6 -39.7,-2.6 -39.7,0 -39.2,0
  region: -1.7,0.3 -0.7,0.9 -0.7,-0.9 -1.7,-0.3
  region: -105.6,0 -101.1,-4.5 -100.9,-4.5 -100.9,-2.5 -103.4,0
  region: -1.7,0.2
  region: -14,2.6 -12.6,2.6 -12.6,4.5 -15.9,4.5 -15.9,2.6 -14.5,2.6 -14.5,0 -14,0
  region: -39.2,2.6 -37.8,2.6 -37.8,4.5 -41.1,4.5 -41.1,2.6 -39.7,2.6 -39.7,0 -39.2,0
  region: -30.8,2.6 -29.4,2.6 -29.4,4.5 -32.7,4.5 -32.7,2.6 -31.3,2.6 -31.3,0 -30.8,0
  region: -9.8,2.6 -8.4,2.6 -8.4,4.5 -11.7,4.5 -11.7,2.6 -10.3,2.6 -10.3,0 -9.8,0
  region: -18.2,-2.6 -16.8,-2.6 -16.8,-4.5 -20.1,-4.5 -20.1,-2.6 -18.7,-2.6 -18.7,0 -18.2,0
Bottom Layer:
  rectangle: -103.8,-0.3 -1.5,0.3
  region: -92.2,2.4 -93.6,2.4 -93.6,0.5 -90.3,0.5 -90.3,2.4 -91.7,2.4 -91.7,5 -92.2,5
  region: -93.8,2.6 -92.4,2.6 -92.4,4.5 -95.7,4.5 -95.7,2.6 -94.3,2.6 -94.3,0 -93.8,0
  region: -83.8,2.4 -85.2,2.4 -85.2,0.5 -81.9,0.5 -81.9,2.4 -83.3,2.4 -83.3,5 -83.8,5
  region: -85.4,2.6 -84,2.6 -84,4.5 -87.3,4.5 -87.3,2.6 -85.9,2.6 -85.9,0 -85.4,0
  region: -75.4,2.4 -76.8,2.4 -76.8,0.5 -73.5,0.5 -73.5,2.4 -74.9,2.4 -74.9,5 -75.4,5
  region: -77,2.6 -75.6,2.6 -75.6,4.5 -78.9,4.5 -78.9,2.6 -77.5,2.6 -77.5,0 -77,0
  region: -88,2.4 -89.4,2.4 -89.4,0.5 -86.1,0.5 -86.1,2.4 -87.5,2.4 -87.5,5 -88,5
  region: -89.6,2.6 -88.2,2.6 -88.2,4.5 -91.5,4.5 -91.5,2.6 -90.1,2.6 -90.1,0 -89.6,0
  region: -79.6,2.4 -81,2.4 -81,0.5 -77.7,0.5 -77.7,2.4 -79.1,2.4 -79.1,5 -79.6,5
  region: -81.2,2.6 -79.8,2.6 -79.8,4.5 -83.1,4.5 -83.1,2.6 -81.7,2.6 -81.7,0 -81.2,0
  region: -67,2.4 -68.4,2.4 -68.4,0.5 -65.1,0.5 -65.1,2.4 -66.5,2.4 -66.5,5 -67,5
  region: -68.6,2.6 -67.2,2.6 -67.2,4.5 -70.5,4.5 -70.5,2.6 -69.1,2.6 -69.1,0 -68.6,0
  region: -58.6,2.4 -60,2.4 -60,0.5 -56.7,0.5 -56.7,2.4 -58.1,2.4 -58.1,5 -58.6,5
  region: -60.2,2.6 -58.8,2.6 -58.8,4.5 -62.1,4.5 -62.1,2.6 -60.7,2.6 -60.7,0 -60.2,0
  region: -50.2,2.4 -51.6,2.4 -51.6,0.5 -48.3,0.5 -48.3,2.4 -49.7,2.4 -49.7,5 -50.2,5
  region: -51.8,2.6 -50.4,2.6 -50.4,4.5 -53.7,4.5 -53.7,2.6 -52.3,2.6 -52.3,0 -51.8,0
  region: -41.8,2.4 -43.2,2.4 -43.2,0.5 -39.9,0.5 -39.9,2.4 -41.3,2.4 -41.3,5 -41.8,5
  region: -43.4,2.6 -42,2.6 -42,4.5 -45.3,4.5 -45.3,2.6 -43.9,2.6 -43.9,0 -43.4,0
  region: -54.4,2.4 -55.8,2.4 -55.8,0.5 -52.5,0.5 -52.5,2.4 -53.9,2.4 -53.9,5 -54.4,5
  region: -62.8,2.4 -64.2,2.4 -64.2,0.5 -60.9,0.5 -60.9,2.4 -62.3,2.4 -62.3,5 -62.8,5
  region: -71.2,2.4 -72.6,2.4 -72.6,0.5 -69.3,0.5 -69.3,2.4 -70.7,2.4 -70.7,5 -71.2,5
  region: -56,2.6 -54.6,2.6 -54.6,4.5 -57.9,4.5 -57.9,2.6 -56.5,2.6 -56.5,0 -56,0
  region: -72.8,2.6 -71.4,2.6 -71.4,4.5 -74.7,4.5 -74.7,2.6 -73.3,2.6 -73.3,0 -72.8,0
  region: -64.4,2.6 -63,2.6 -63,4.5 -66.3,4.5 -66.3,2.6 -64.9,2.6 -64.9,0 -64.4,0
  region: -46,2.4 -47.4,2.4 -47.4,0.5 -44.1,0.5 -44.1,2.4 -45.5,2.4 -45.5,5 -46,5
  region: -47.6,2.6 -46.2,2.6 -46.2,4.5 -49.5,4.5 -49.5,2.6 -48.1,2.6 -48.1,0 -47.6,0
  region: -92.2,-2.4 -93.6,-2.4 -93.6,-0.5 -90.3,-0.5 -90.3,-2.4 -91.7,-2.4 -91.7,-5 -92.2,-5
  region: -93.8,-2.6 -92.4,-2.6 -92.4,-4.5 -95.7,-4.5 -95.7,-2.6 -94.3,-2.6 -94.3,0 -93.8,0
  region: -83.8,-2.4 -85.2,-2.4 -85.2,-0.5 -81.9,-0.5 -81.9,-2.4 -83.3,-2.4 -83.3,-5 -83.8,-5
  region: -85.4,-2.6 -84,-2.6 -84,-4.5 -87.3,-4.5 -87.3,-2.6 -85.9,-2.6 -85.9,0 -85.4,0
  region: -75.4,-2.4 -76.8,-2.4 -76.8,-0.5 -73.5,-0.5 -73.5,-2.4 -74.9,-2.4 -74.9,-5 -75.4,-5
  region: -77,-2.6 -75.6,-2.6 -75.6,-4.5 -78.9,-4.5 -78.9,-2.6 -77.5,-2.6 -77.5,0 -77,0
  region: -88,-2.4 -89.4,-2.4 -89.4,-0.5 -86.1,-0.5 -86.1,-2.4 -87.5,-2.4 -87.5,-5 -88,-5
  region: -96.4,-2.4 -97.8,-2.4 -97.8,-0.5 -94.5,-0.5 -94.5,-2.4 -95.9,-2.4 -95.9,-5 -96.4,-5
  region: -98,-2.6 -96.6,-2.6 -96.6,-4.5 -99.9,-4.5 -99.9,-2.6 -98.5,-2.6 -98.5,0 -98,0
  region: -89.6,-2.6 -88.2,-2.6 -88.2,-4.5 -91.5,-4.5 -91.5,-2.6 -90.1,-2.6 -90.1,0 -89.6,0
  region: -79.6,-2.4 -81,-2.4 -81,-0.5 -77.7,-0.5 -77.7,-2.4 -79.1,-2.4 -79.1,-5 -79.6,-5
  region: -81.2,-2.6 -79.8,-2.6 -79.8,-4.5 -83.1,-4.5 -83.1,-2.6 -81.7,-2.6 -81.7,0 -81.2,0
  region: -67,-2.4 -68.4,-2.4 -68.4,-0.5 -65.1,-0.5 -65.1,-2.4 -66.5,-2.4 -66.5,-5 -67,-5
  region: -68.6,-2.6 -67.2,-2.6 -67.2,-4.5 -70.5,-4.5 -70.5,-2.6 -69.1,-2.6 -69.1,0 -68.6,0
  region: -58.6,-2.4 -60,-2.4 -60,-0.5 -56.7,-0.5 -56.7,-2.4 -58.1,-2.4 -58.1,-5 -58.6,-5
  region: -60.2,-2.6 -58.8,-2.6 -58.8,-4.5 -62.1,-4.5 -62.1,-2.6 -60.7,-2.6 -60.7,0 -60.2,0
  region: -50.2,-2.4 -51.6,-2.4 -51.6,-0.5 -48.3,-0.5 -48.3,-2.4 -49.7,-2.4 -49.7,-5 -50.2,-5
  region: -51.8,-2.6 -50.4,-2.6 -50.4,-4.5 -53.7,-4.5 -53.7,-2.6 -52.3,-2.6 -52.3,0 -51.8,0
  region: -41.8,-2.4 -43.2,-2.4 -43.2,-0.5 -39.9,-0.5 -39.9,-2.4 -41.3,-2.4 -41.3,-5 -41.8,-5
  region: -43.4,-2.6 -42,-2.6 -42,-4.5 -45.3,-4.5 -45.3,-2.6 -43.9,-2.6 -43.9,0 -43.4,0
  region: -54.4,-2.4 -55.8,-2.4 -55.8,-0.5 -52.5,-0.5 -52.5,-2.4 -53.9,-2.4 -53.9,-5 -54.4,-5
  region: -62.8,-2.4 -64.2,-2.4 -64.2,-0.5 -60.9,-0.5 -60.9,-2.4 -62.3,-2.4 -62.3,-5 -62.8,-5
  region: -71.2,-2.4 -72.6,-2.4 -72.6,-0.5 -69.3,-0.5 -69.3,-2.4 -70.7,-2.4 -70.7,-5 -71.2,-5
  region: -64.4,-2.6 -63,-2.6 -63,-4.5 -66.3,-4.5 -66.3,-2.6 -64.9,-2.6 -64.9,0 -64.4,0
  region: -56,-2.6 -54.6,-2.6 -54.6,-4.5 -57.9,-4.5 -57.9,-2.6 -56.5,-2.6 -56.5,0 -56,0
  region: -72.8,-2.6 -71.4,-2.6 -71.4,-4.5 -74.7,-4.5 -74.7,-2.6 -73.3,-2.6 -73.3,0 -72.8,0
  region: -46,-2.4 -47.4,-2.4 -47.4,-0.5 -44.1,-0.5 -44.1,-2.4 -45.5,-2.4 -45.5,-5 -46,-5
  region: -47.6,-2.6 -46.2,-2.6 -46.2,-4.5 -49.5,-4.5 -49.5,-2.6 -48.1,-2.6 -48.1,0 -47.6,0
  region: -46.9,0
  region: -46.9,0
  region: -42.9,-5.9
  region: -42.1,4.5
  region: -42,4.5
  region: -42.9,5.9
  region: -0.7,1.3
  region: -1.7,0.2
  region: -1.7,5.9
  region: -1.7,5.9
  region: 0,2
  region: -46.9,0
  region: -46.9,0
  region: -42.9,-5.9
  region: -42,4.5
  region: -42.1,4.5
  region: -42.9,5.9
  region: -1.7,0.2
  region: -0.7,1.3
  region: -1.7,5.9
  region: -1.7,5.9
  region: 0,2
  region: -1.7,0.3 -0.7,0.9 -0.7,-0.9 -1.7,-0.3
  region: -100.7,4.9 -100.7,2.4 -102.6,0.5 -98.7,0.5 -98.7,2.4 -100.1,2.4 -100.1,4.9
  region: -33.4,2.4 -34.8,2.4 -34.8,0.5 -31.5,0.5 -31.5,2.4 -32.9,2.4 -32.9,5 -33.4,5
  region: -35,2.6 -33.6,2.6 -33.6,4.5 -36.9,4.5 -36.9,2.6 -35.5,2.6 -35.5,0 -35,0
  region: -25,2.4 -26.4,2.4 -26.4,0.5 -23.1,0.5 -23.1,2.4 -24.5,2.4 -24.5,5 -25,5
  region: -26.6,2.6 -25.2,2.6 -25.2,4.5 -28.5,4.5 -28.5,2.6 -27.1,2.6 -27.1,0 -26.6,0
  region: -16.6,2.4 -18,2.4 -18,0.5 -14.7,0.5 -14.7,2.4 -16.1,2.4 -16.1,5 -16.6,5
  region: -18.2,2.6 -16.8,2.6 -16.8,4.5 -20.1,4.5 -20.1,2.6 -18.7,2.6 -18.7,0 -18.2,0
  region: -8.2,2.4 -9.6,2.4 -9.6,0.5 -6.3,0.5 -6.3,2.4 -7.7,2.4 -7.7,5 -8.2,5
  region: -9.8,2.6 -8.4,2.6 -8.4,4.5 -11.7,4.5 -11.7,2.6 -10.3,2.6 -10.3,0 -9.8,0
  region: -1.7,0.5 -0.8,1.1 1.1,1.1 1.1,2.3 1.1,4.1 1.1,5.9 -1.7,5.9
  region: -0.7,-0.9 1.1,-0.9 1.1,0.9 -0.7,0.9
  region: -100.65,-4.9 -100.65,-2.4 -102.55,-0.5 -98.7,-0.5 -98.7,-2.4 -100.05,-2.4 -100.05,-4.9
  region: -33.4,-2.4 -34.8,-2.4 -34.8,-0.5 -31.5,-0.5 -31.5,-2.4 -32.9,-2.4 -32.9,-5 -33.4,-5
  region: -35,-2.6 -33.6,-2.6 -33.6,-4.5 -36.9,-4.5 -36.9,-2.6 -35.5,-2.6 -35.5,0 -35,0
  region: -25,-2.4 -26.4,-2.4 -26.4,-0.5 -23.1,-0.5 -23.1,-2.4 -24.5,-2.4 -24.5,-5 -25,-5
  region: -26.6,-2.6 -25.2,-2.6 -25.2,-4.5 -28.5,-4.5 -28.5,-2.6 -27.1,-2.6 -27.1,0 -26.6,0
  region: -16.6,-2.4 -18,-2.4 -18,-0.5 -14.7,-0.5 -14.7,-2.4 -16.1,-2.4 -16.1,-5 -16.6,-5
  region: -18.2,-2.6 -16.8,-2.6 -16.8,-4.5 -20.1,-4.5 -20.1,-2.6 -18.7,-2.6 -18.7,0 -18.2,0
  region: -8.2,-2.4 -9.6,-2.4 -9.6,-0.5 -6.3,-0.5 -6.3,-2.4 -7.7,-2.4 -7.7,-5 -8.2,-5
  region: -9.8,-2.6 -8.4,-2.6 -8.4,-4.5 -11.7,-4.5 -11.7,-2.6 -10.3,-2.6 -10.3,0 -9.8,0
  region: -1.7,-5.9 1.1,-5.9 1.1,-4.1 1.1,-2.3 1.1,-1.1 -0.8,-1.1 -1.7,-0.5
  region: -20.8,2.4 -22.2,2.4 -22.2,0.5 -18.9,0.5 -18.9,2.4 -20.3,2.4 -20.3,5 -20.8,5
  region: -29.2,2.4 -30.6,2.4 -30.6,0.5 -27.3,0.5 -27.3,2.4 -28.7,2.4 -28.7,5 -29.2,5
  region: -37.6,2.4 -39,2.4 -39,0.5 -35.7,0.5 -35.7,2.4 -37.1,2.4 -37.1,5 -37.6,5
  region: -101.7,5.9 -107.6,0 -105.9,0 -101.2,4.7 -101.2,5.9
  region: -22.4,2.6 -21,2.6 -21,4.5 -24.3,4.5 -24.3,2.6 -22.9,2.6 -22.9,0 -22.4,0
  region: -105.6,0 -101.1,4.5 -100.9,4.5 -100.9,2.5 -103.4,0
  region: -39.2,2.6 -37.8,2.6 -37.8,4.5 -41.1,4.5 -41.1,2.6 -39.7,2.6 -39.7,0 -39.2,0
  region: -30.8,2.6 -29.4,2.6 -29.4,4.5 -32.7,4.5 -32.7,2.6 -31.3,2.6 -31.3,0 -30.8,0
  region: -12.4,2.4 -13.8,2.4 -13.8,0.5 -10.5,0.5 -10.5,2.4 -11.9,2.4 -11.9,5 -12.4,5
  region: -5.6,2.6 -4.2,2.6 -4.2,4.5 -7.5,4.5 -7.5,2.6 -6.1,2.6 -6.1,0 -5.6,0
  region: -14,2.6 -12.6,2.6 -12.6,4.5 -15.9,4.5 -15.9,2.6 -14.5,2.6 -14.5,0 -14,0
  region: -20.8,-2.4 -22.2,-2.4 -22.2,-0.5 -18.9,-0.5 -18.9,-2.4 -20.3,-2.4 -20.3,-5 -20.8,-5
  region: -29.2,-2.4 -30.6,-2.4 -30.6,-0.5 -27.3,-0.5 -27.3,-2.4 -28.7,-2.4 -28.7,-5 -29.2,-5
  region: -37.6,-2.4 -39,-2.4 -39,-0.5 -35.7,-0.5 -35.7,-2.4 -37.1,-2.4 -37.1,-5 -37.6,-5
  region: -101.7,-5.9 -107.6,0 -105.9,0 -101.2,-4.7 -101.2,-5.9
  region: -30.8,-2.6 -29.4,-2.6 -29.4,-4.5 -32.7,-4.5 -32.7,-2.6 -31.3,-2.6 -31.3,0 -30.8,0
  region: -22.4,-2.6 -21,-2.6 -21,-4.5 -24.3,-4.5 -24.3,-2.6 -22.9,-2.6 -22.9,0 -22.4,0
  region: -39.2,-2.6 -37.8,-2.6 -37.8,-4.5 -41.1,-4.5 -41.1,-2.6 -39.7,-2.6 -39.7,0 -39.2,0
  region: -105.6,0 -101.1,-4.5 -100.9,-4.5 -100.9,-2.5 -103.4,0
  region: -12.4,-2.4 -13.8,-2.4 -13.8,-0.5 -10.5,-0.5 -10.5,-2.4 -11.9,-2.4 -11.9,-5 -12.4,-5
  region: -14,-2.6 -12.6,-2.6 -12.6,-4.5 -15.9,-4.5 -15.9,-2.6 -14.5,-2.6 -14.5,0 -14,0
  region: -6.1,-2.6 -7.5,-2.6 -7.5,-4.5 -4.2,-4.5 -4.2,-2.6 -5.6,-2.6 -5.6,0 -6.1,0
  region: -1.7,0.5 -5.3,0.5 -5.3,2.4 -4,2.4 -4,4.7 -101.7,4.7 -101.7,5.9 -1.7,5.9
  region: -1.7,-0.5 -5.3,-0.5 -5.3,-2.4 -4,-2.4 -4,-4.7 -101.4,-4.7 -101.4,-5.9 -1.7,-5.9
  region: -96.4,2.4 -97.8,2.4 -97.8,0.5 -94.5,0.5 -94.5,2.4 -95.9,2.4 -95.9,5 -96.4,5
  region: -98,2.6 -96.6,2.6 -96.6,4.5 -99.9,4.5 -99.9,2.6 -98.5,2.6 -98.5,0 -98,0

## Solar Panel connenctor [mm]
pads (2):
  rrect50% 2.5x1.5 smd: PV+(0.03,1.107) PV-(0,-1.1)
Top Overlay:
  lines w0.254: -1.785,-2.297 -1.785,2.204 1.815,2.204 1.815,-2.297 -1.785,-2.297
  text "PV" at -1.631,-4.142 h1.52